# Altium integrated library CDE_Library.IntLib: 6171 symbols (part 20 of 25)
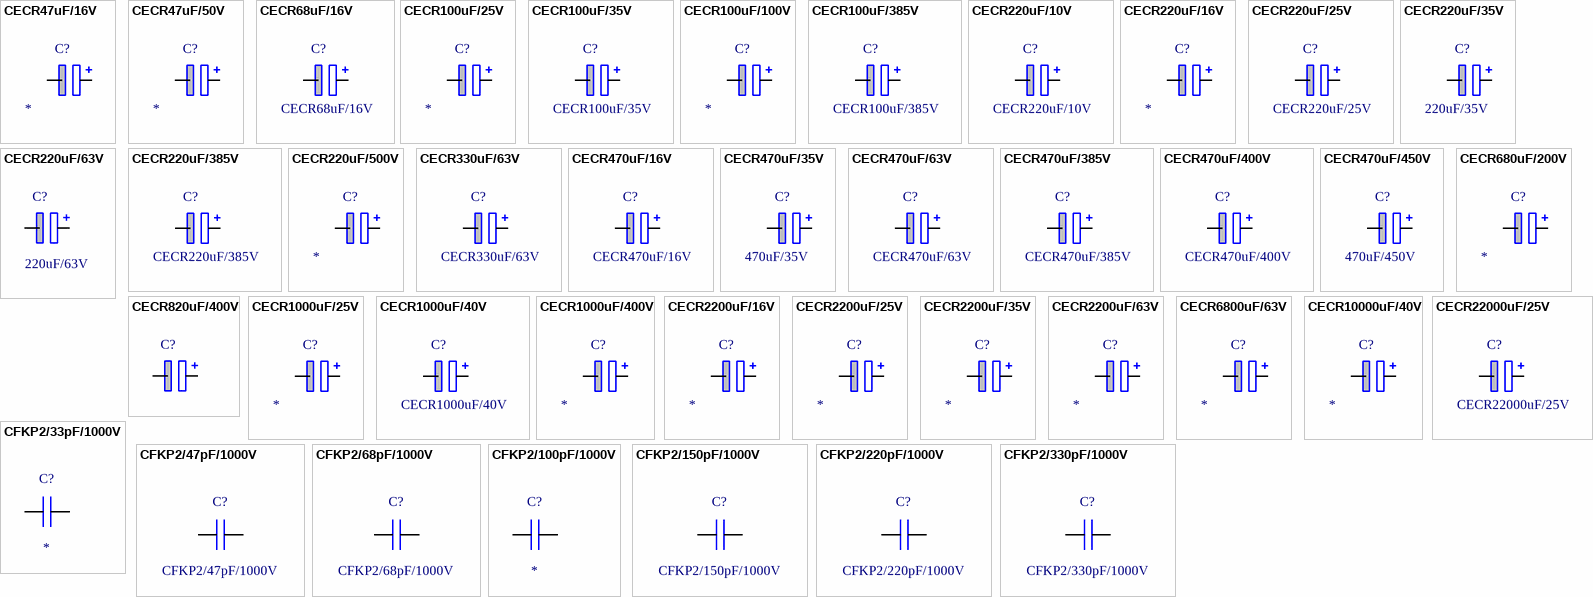
[diagram p276: symbols CECR47uF/16V to CFKP2/330pF/1000V]

## CECR470uF/450V
designator C?, comment 470uF/450V
elektrolytische condensator radiaal 470uF/450V; Part Number: CECR470uF/400V; Component Kind: Standard; Component Type: Standard; Designator: CECR470uF/400V; Footprint: cap 68 pol (D1.6/150/59); Library Reference: CECR470uF/400V; Pin Count: 2
footprint CAP 95 POL(D35/50)
pins: 1, 2

## CECR680uF/200V
designator C?
elektrolytische condensator radiaal 680uF/200V
footprint cap 84 pol (D1.2/175/75)
pins: 1, 2

## CECR820uF/400V
designator C?  (value not drawn)
elektrolytische condensator radiaal 820uF/400V
footprint cap 94 pol (D1.4/.9/150/70)
pins: 1, 2

## CECR1000uF/25V
designator C?
elektrolytische condensator radiaal 1000uF/25V
footprint cap 64 pol (D.4/.2/80/36)
pins: 1, 2

## CECR1000uF/40V
designator C?
elektrolytische condensator radiaal 1000uF/40V; Part Number: CECR1000uF/40V; Component Kind: Standard; Component Type: Standard; Designator: CECR1000uF/40V; Footprint: cap 66 pol (D.66/.3/125/43); Library Reference: CECR1000uF/40V; Pin Count: 2
footprint cap 66 pol (D.66/.3/125/43)
pins: 1, 2

## CECR1000uF/400V
designator C?
elco radiaal 1000uF/400V, Epcos B43514C9108M
footprint elco Epcos B43514 d40mm
pins: 1, 3

## CECR2200uF/16V
designator C?
elektrolytische condensator radiaal 2200uF/16V
footprint cap 63 pol (D.52/.2/90/36)
pins: 1, 2

## CECR2200uF/25V
designator C?
elektrolytische condensator radiaal 2200uF/25V
footprint cap 70 pol (D1/150/59)
pins: 1, 2

## CECR2200uF/35V
designator C?
elektrolytische condensator radiaal 2200uF/35V
footprint cap 66 pol (D.66/.3/125/43)
pins: 1, 2

## CECR2200uF/63V
designator C?
elektrolytische condensator radiaal 2200uF/35V
footprint cap 92 pol (D.87/.4/175/75)
pins: 1, 2

## CECR6800uF/63V
designator C?
elektrolytische condensator radiaal 6800uF/63V
footprint cap 68 pol (D1.6/150/59)
pins: 1, 2

## CECR10000uF/40V
designator C?
elektrolytische condensator radiaal 10000uF/40V
footprint cap 67 pol (D1.4/150/59)
pins: 1, 2

## CECR22000uF/25V
designator C?
elektrolytische condensator radiaal 22000uF/25V; Part Number: CECR22000uF/25V; Component Kind: Standard; Component Type: Standard; Designator: CECR22000uF/25V; Footprint: cap 67 pol (D1.4/150/59); Library Reference: CECR22000uF/25V; Pin Count: 2
footprint cap 67 pol (D1.4/150/59)
pins: 1, 2

## CFKP2/33pF/1000V
designator C?
polypropyleen capaciteit, Wima FKP2, 33pF/1000V
footprint cap 27 (.28/.1/.2/80/32)
pins: 1, 2

## CFKP2/47pF/1000V
designator C?
polypropyleen capaciteit, Wima FKP2, 47pF/1000V; Part Number: CFKP2/47pF/1000V; Component Kind: Standard; Component Type: Standard; Designator: CFKP2/47pF/1000V; Footprint: cap 27 (.28/.1/.2/80/32); Library Reference: CFKP2/47pF/1000V; Pin Count: 2
footprint cap 27 (.28/.1/.2/80/32)
pins: 1, 2

## CFKP2/68pF/1000V
designator C?
polypropyleen capaciteit, Wima FKP2, 68pF/1000V; Part Number: CFKP2/68pF/1000V; Component Kind: Standard; Component Type: Standard; Designator: CFKP2/68pF/1000V; Footprint: cap 27 (.28/.1/.2/80/32); Library Reference: CFKP2/68pF/1000V; Pin Count: 2
footprint cap 27 (.28/.1/.2/80/32)
pins: 1, 2

## CFKP2/100pF/1000V
designator C?
polypropyleen capaciteit, Wima FKP2, 100pF/1000V
footprint cap 87 (.28/.18/.2/80/32)
pins: 1, 2

## CFKP2/150pF/1000V
designator C?
polypropyleen capaciteit, Wima FKP2, 150pF/1000V; Part Number: CFKP2/150pF/1000V; Component Kind: Standard; Component Type: Standard; Designator: CFKP2/150pF/1000V; Footprint: cap 87 (.28/.18/.2/80/32); Library Reference: CFKP2/150pF/1000V; Pin Count: 2
footprint cap 87 (.28/.18/.2/80/32)
pins: 1, 2

## CFKP2/220pF/1000V
designator C?
polypropyleen capaciteit, Wima FKP2, 220pF/1000V; Part Number: CFKP2/220pF/1000V; Component Kind: Standard; Component Type: Standard; Designator: CFKP2/220pF/1000V; Footprint: cap 87 (.28/.18/.2/80/32); Library Reference: CFKP2/220pF/1000V; Pin Count: 2
footprint cap 87 (.28/.18/.2/80/32)
pins: 1, 2

## CFKP2/330pF/1000V
designator C?
polypropyleen capaciteit, Wima FKP2, 330pF/1000V; Part Number: CFKP2/330pF/1000V; Component Kind: Standard; Component Type: Standard; Designator: CFKP2/330pF/1000V; Footprint: cap 87 (.28/.18/.2/80/32); Library Reference: CFKP2/330pF/1000V; Pin Count: 2
footprint cap 87 (.28/.18/.2/80/32)
pins: 1, 2

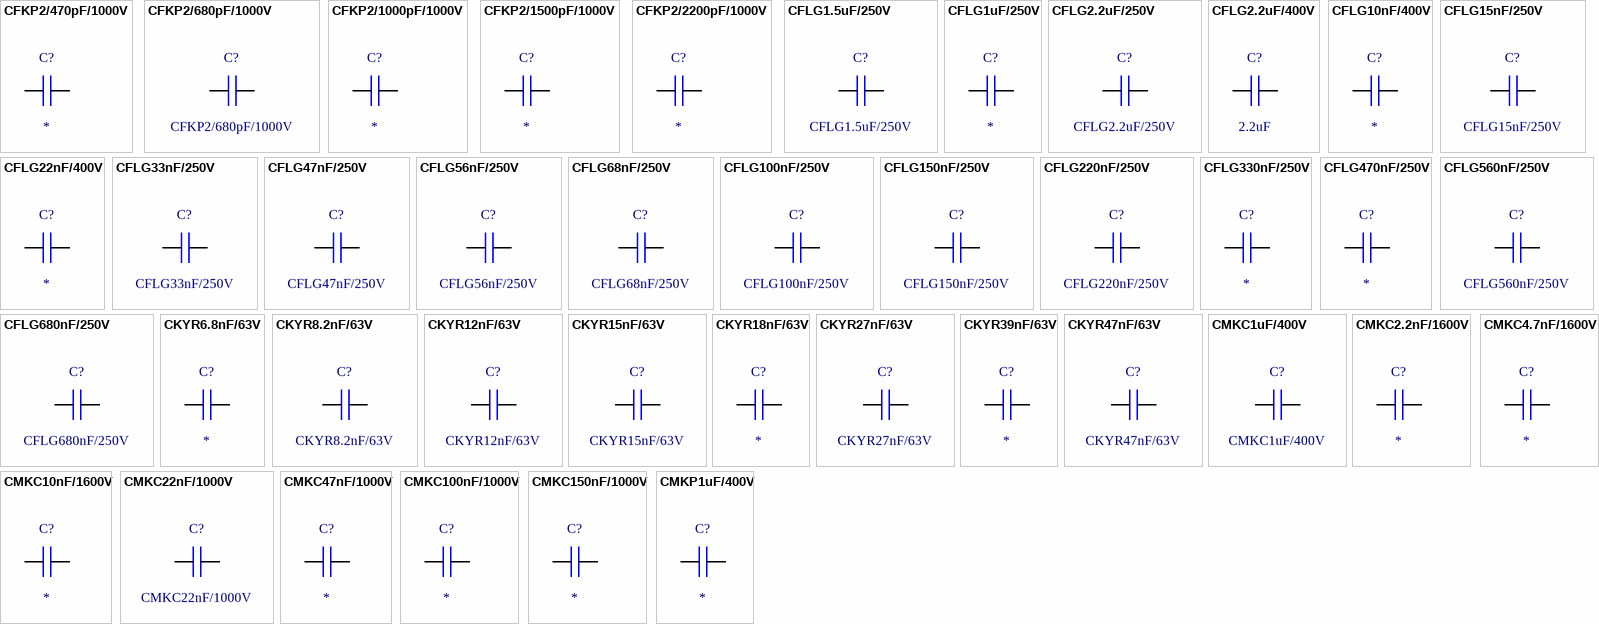
[diagram p223: symbols CFKP2/470pF/1000V to CMKP1uF/400V]

## CFKP2/470pF/1000V
designator C?
polypropyleen capaciteit, Wima FKP2, 470pF/1000V
footprint cap 88 (.28/.22/.2/80/32)
pins: 1, 2

## CFKP2/680pF/1000V
designator C?
polypropyleen capaciteit, Wima FKP2, 680pF/1000V; Part Number: CFKP2/680pF/1000V; Component Kind: Standard; Component Type: Standard; Designator: CFKP2/680pF/1000V; Footprint: cap 88 (.28/.22/.2/80/32); Library Reference: CFKP2/680pF/1000V; Pin Count: 2
footprint cap 88 (.28/.22/.2/80/32)
pins: 1, 2

## CFKP2/1000pF/1000V
designator C?
polypropyleen capaciteit, Wima FKP2, 1000pF/1000V
footprint cap 89 (.28/.25/.2/80/32)
pins: 1, 2

## CFKP2/1500pF/1000V
designator C?
polypropyleen capaciteit, Wima FKP2, 1500pF/1000V
footprint cap 90 (.28/.28/.2/80/32)
pins: 1, 2

## CFKP2/2200pF/1000V
designator C?
polypropyleen capaciteit, Wima FKP2, 2200pF/1000V
footprint cap 91 (.28/.33/.2/80/32)
pins: 1, 2

## CFLG1.5uF/250V
designator C?
gemetaliseerde polyester capaciteit 1.5uF/250V; Part Number: CFLG1.5uF/250V; Component Kind: Standard; Component Type: Standard; Designator: CFLG1.5uF/250V; Footprint: cap 43 (1.1/.38/1.1/125/43); Library Reference: CFLG1.5uF/250V; Pin Count: 2
footprint cap 43 (1.1/.38/1.1/125/43)
pins: 1, 2

## CFLG1uF/250V
designator C?
gemetaliseerde polyester capaciteit 1uF/250V
footprint cap 43 (1.1/.38/1.1/125/43)
pins: 1, 2

## CFLG2.2uF/250V
designator C?
gemetaliseerde polyester capaciteit 2.2uF/250V; Part Number: CFLG2.2uF/250V; Component Kind: Standard; Component Type: Standard; Designator: CFLG2.2uF/250V; Footprint: cap 43 (1.1/.38/1.1/125/43); Library Reference: CFLG2.2uF/250V; Pin Count: 2
footprint cap 43 (1.1/.38/1.1/125/43)
pins: 1, 2

## CFLG2.2uF/400V
designator C?, comment 2.2uF
gemetaliseerde polyester capaciteit 2.2uF/400V
footprint cap 43 (1.1/.38/1.1/125/43)
pins: 1, 2

## CFLG10nF/400V
designator C?
gemetaliseerde polyester capaciteit 10nF/400V
footprint cap 39 (.46/.14/.4/80/36)
pins: 1, 2

## CFLG15nF/250V
designator C?
gemetaliseerde polyester capaciteit 15nF/250V; Part Number: CFLG15nF/250V; Component Kind: Standard; Component Type: Standard; Designator: CFLG15nF/250V; Footprint: cap 39 (.46/.14/.4/80/36); Library Reference: CFLG15nF/250V; Pin Count: 2
footprint cap 39 (.46/.14/.4/80/36)
pins: 1, 2

## CFLG22nF/400V
designator C?
gemetaliseerde polyester capaciteit 22nF/400V
footprint cap 40 (.46/.2/.4/80/36)
pins: 1, 2

## CFLG33nF/250V
designator C?
gemetaliseerde polyester capaciteit 33nF/250V; Part Number: CFLG33nF/250V; Component Kind: Standard; Component Type: Standard; Designator: CFLG33nF/250V; Footprint: cap 39 (.46/.14/.4/80/36); Library Reference: CFLG33nF/250V; Pin Count: 2
footprint cap 39 (.46/.14/.4/80/36)
pins: 1, 2

## CFLG47nF/250V
designator C?
gemetaliseerde polyester capaciteit 47nF/250V; Part Number: CFLG47nF/250V; Component Kind: Standard; Component Type: Standard; Designator: CFLG47nF/250V; Footprint: cap 39 (.46/.14/.4/80/36); Library Reference: CFLG47nF/250V; Pin Count: 2
footprint cap 39 (.46/.14/.4/80/36)
pins: 1, 2

## CFLG56nF/250V
designator C?
gemetaliseerde polyester capaciteit 56nF/250V; Part Number: CFLG56nF/250V; Component Kind: Standard; Component Type: Standard; Designator: CFLG56nF/250V; Footprint: cap 40 (.46/.2/.4/80/36); Library Reference: CFLG56nF/250V; Pin Count: 2
footprint cap 40 (.46/.2/.4/80/36)
pins: 1, 2

## CFLG68nF/250V
designator C?
gemetaliseerde polyester capaciteit 68nF/250V; Part Number: CFLG68nF/250V; Component Kind: Standard; Component Type: Standard; Designator: CFLG68nF/250V; Footprint: cap 39 (.46/.14/.4/80/36); Library Reference: CFLG68nF/250V; Pin Count: 2
footprint cap 39 (.46/.14/.4/80/36)
pins: 1, 2

## CFLG100nF/250V
designator C?
gemetaliseerde polyester capaciteit 100nF/250V; Part Number: CFLG100nF/250V; Component Kind: Standard; Component Type: Standard; Designator: CFLG100nF/250V; Footprint: cap 31 (.4/.2/.3/80/36); Library Reference: CFLG100nF/250V; Pin Count: 2
footprint cap 31 (.4/.2/.3/80/36)
pins: 1, 2

## CFLG150nF/250V
designator C?
gemetaliseerde polyester capaciteit 150nF/250V; Part Number: CFLG150nF/250V; Component Kind: Standard; Component Type: Standard; Designator: CFLG150nF/250V; Footprint: cap 18 (.7/.2/.6/125/43); Library Reference: CFLG150nF/250V; Pin Count: 2
footprint cap 18 (.7/.2/.6/125/43)
pins: 1, 2

## CFLG220nF/250V
designator C?
gemetaliseerde polyester capaciteit 220nF/250V; Part Number: CFLG220nF/250V; Component Kind: Standard; Component Type: Standard; Designator: CFLG220nF/250V; Footprint: cap 19 (.7/.28/.6/125/43); Library Reference: CFLG220nF/250V; Pin Count: 2
footprint cap 19 (.7/.28/.6/125/43)
pins: 1, 2

## CFLG330nF/250V
designator C?
gemetaliseerde polyester capaciteit 330nF/250V
footprint cap 41 (.82/.24/.8/125/43)
pins: 1, 2

## CFLG470nF/250V
designator C?
gemetaliseerde polyester capaciteit 470nF/250V
footprint cap 42 (.94/.22/.9/125/43)
pins: 1, 2

## CFLG560nF/250V
designator C?
gemetaliseerde polyester capaciteit 560nF/250V; Part Number: CFLG560nF/250V; Component Kind: Standard; Component Type: Standard; Designator: CFLG560nF/250V; Footprint: cap 41 (.82/.24/.8/125/43); Library Reference: CFLG560nF/250V; Pin Count: 2
footprint cap 41 (.82/.24/.8/125/43)
pins: 1, 2

## CFLG680nF/250V
designator C?
gemetaliseerde polyester capaciteit 680nF/250V; Part Number: CFLG680nF/250V; Component Kind: Standard; Component Type: Standard; Designator: CFLG680nF/250V; Footprint: cap 42 (.94/.22/.9/125/43); Library Reference: CFLG680nF/250V; Pin Count: 2
footprint cap 42 (.94/.22/.9/125/43)
pins: 1, 2

## CKYR6.8nF/63V
designator C?
film capaciteit type KYR 6.8nF/63V
footprint cap 44 (.28/.28/dgnl.2/80/36)
pins: 1, 2

## CKYR8.2nF/63V
designator C?
film capaciteit type KYR 8.2nF/63V; Part Number: CKYR8.2nF/63V; Component Kind: Standard; Component Type: Standard; Designator: CKYR8.2nF/63V; Footprint: cap 44 (.28/.28/dgnl.2/80/36); Library Reference: CKYR8.2nF/63V; Pin Count: 2
footprint cap 44 (.28/.28/dgnl.2/80/36)
pins: 1, 2

## CKYR12nF/63V
designator C?
film capaciteit type KYR 12nF/63V; Part Number: CKYR12nF/63V; Component Kind: Standard; Component Type: Standard; Designator: CKYR12nF/63V; Footprint: cap 44 (.28/.28/dgnl.2/80/36); Library Reference: CKYR12nF/63V; Pin Count: 2
footprint cap 44 (.28/.28/dgnl.2/80/36)
pins: 1, 2

## CKYR15nF/63V
designator C?
film capaciteit type KYR 15nF/63V; Part Number: CKYR15nF/63V; Component Kind: Standard; Component Type: Standard; Designator: CKYR15nF/63V; Footprint: cap 44 (.28/.28/dgnl.2/80/36); Library Reference: CKYR15nF/63V; Pin Count: 2
footprint cap 44 (.28/.28/dgnl.2/80/36)
pins: 1, 2

## CKYR18nF/63V
designator C?
film capaciteit type KYR 18nF/63V
footprint cap 45 (.38/.38/dgnl.3/80/36)
pins: 1, 2

## CKYR27nF/63V
designator C?
film capaciteit type KYR 27nF/63V; Part Number: CKYR27nF/63V; Component Kind: Standard; Component Type: Standard; Designator: CKYR27nF/63V; Footprint: cap 45 (.38/.38/dgnl.3/80/36); Library Reference: CKYR27nF/63V; Pin Count: 2
footprint cap 45 (.38/.38/dgnl.3/80/36)
pins: 1, 2

## CKYR39nF/63V
designator C?
film capaciteit type KYR 39nF/63V
footprint cap 46 (.48/.48/dgnl.4/80/36)
pins: 1, 2

## CKYR47nF/63V
designator C?
film capaciteit type KYR 47nF/63V; Part Number: CKYR47nF/63V; Component Kind: Standard; Component Type: Standard; Designator: CKYR47nF/63V; Footprint: cap 46 (.48/.48/dgnl.4/80/36); Library Reference: CKYR47nF/63V; Pin Count: 2
footprint cap 46 (.48/.48/dgnl.4/80/36)
pins: 1, 2

## CMKC1uF/400V
designator C?
polyester capaciteit 1uF/400V; Part Number: CMKC1uF/400V; Component Kind: Standard; Component Type: Standard; Designator: CMKC1uF/400V; Footprint: cap 13 (1.2/.88/1.4/150/55); Library Reference: CMKC1uF/400V; Pin Count: 2
footprint cap 13 (1.2/.88/1.4/150/55)
pins: 1, 2

## CMKC2.2nF/1600V
designator C?
polyester capaciteit 2,2nF/1600V
footprint cap 8 (.7/.4/.9/150/47)
pins: 1, 2

## CMKC4.7nF/1600V
designator C?
polyester capaciteit 4,7nF/1600V
footprint cap 9 (.72/.46/.9/150/47)
pins: 1, 2

## CMKC10nF/1600V
designator C?
polyester capaciteit 10nF/1600V
footprint cap 10 (.94/.46/1.1/150/47)
pins: 1, 2

## CMKC22nF/1000V
designator C?
polyester capaciteit 22nF/1000V; Part Number: CMKC22nF/1000V; Component Kind: Standard; Component Type: Standard; Designator: CMKC22nF/1000V; Footprint: cap 10 (.94/.46/1.1/150/47); Library Reference: CMKC22nF/1000V; Pin Count: 2
footprint cap 10 (.94/.46/1.1/150/47)
pins: 1, 2

## CMKC47nF/1000V
designator C?
polyester capaciteit 47nF/1000V
footprint cap 11 (.94/.58/1.1/150/47)
pins: 1, 2

## CMKC100nF/1000V
designator C?
polyester capaciteit 100nF/1000V
footprint cap 12 (1.2/.76/1.4/150/55)
pins: 1, 2

## CMKC150nF/1000V
designator C?
polyester capaciteit 150nF/1000V
footprint cap 13 (1.2/.88/1.4/150/55)
pins: 1, 2

## CMKP1uF/400V
designator C?
gemetaliseerde polypropyleen capaciteit 1uF/400V
footprint cap 37 (1.6/.6/1.5/125/43)
pins: 1, 2

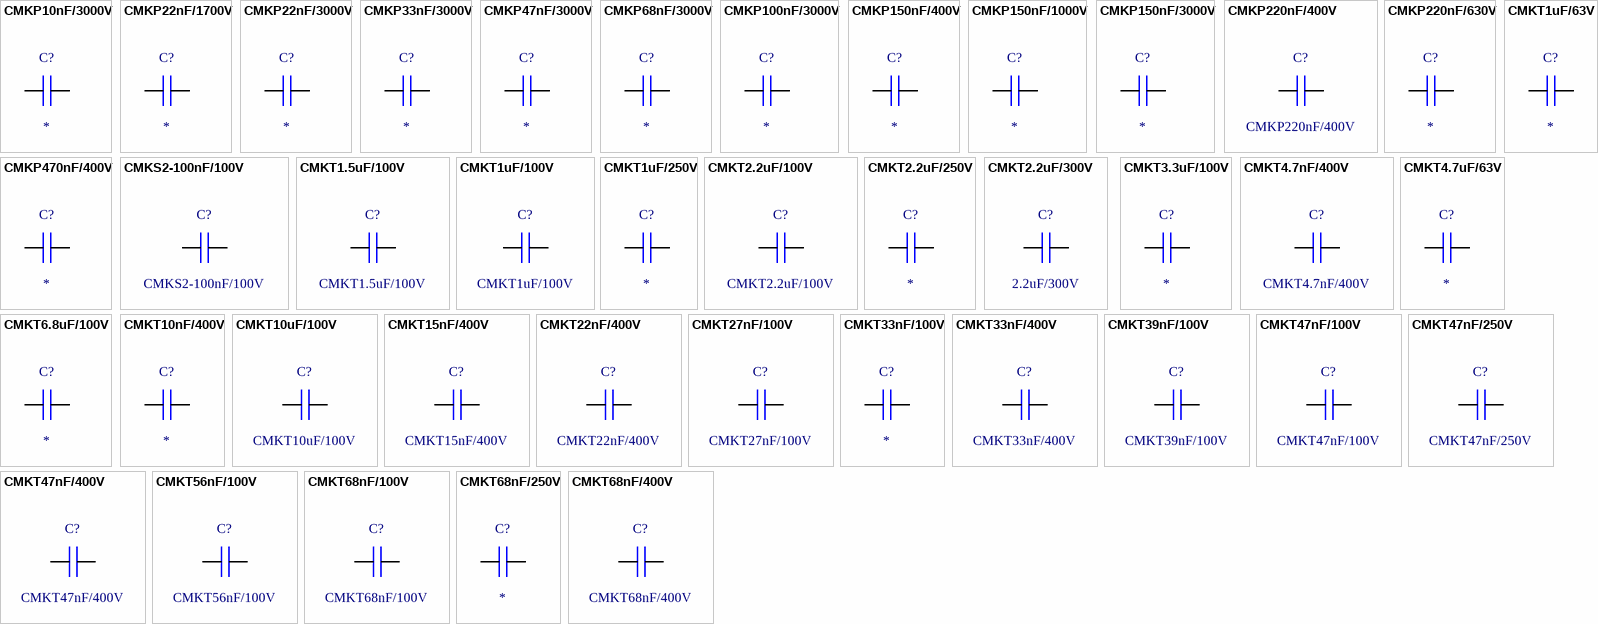
[diagram p224: symbols CMKP10nF/3000V to CMKT68nF/400V]

## CMKP10nF/3000V
designator C?
gemetaliseerde polypropyleen capaciteit 10nF/3000V
footprint cap 75 (1.3/.48/1.5/125/43)
pins: 1, 2

## CMKP22nF/1700V
designator C?
gemetaliseerde polypropyleen capaciteit 22nF/1700V
footprint cap 71 (1.1/.46/1.1/125/43)
pins: 1, 2

## CMKP22nF/3000V
designator C?
gemetaliseerde polypropyleen capaciteit 22nF/3000V
footprint cap 76 (1.3/.68/1.5/125/51)
pins: 1, 2

## CMKP33nF/3000V
designator C?
gemetaliseerde polypropyleen capaciteit 33nF/3000V
footprint cap 77 (1.3/.82/1.5/125/51)
pins: 1, 2

## CMKP47nF/3000V
designator C?
gemetaliseerde polypropyleen capaciteit 47nF/3000V
footprint cap 78 (1.74/.75/1.9/125/51)
pins: 1, 2

## CMKP68nF/3000V
designator C?
gemetaliseerde polypropyleen capaciteit 68nF/3000V
footprint cap 79 (1.74/.9/1.9/125/51)
pins: 1, 2

## CMKP100nF/3000V
designator C?
gemetaliseerde polypropyleen capaciteit 100nF/3000V
footprint cap 80 (1.74/1.06/1.9/125/59)
pins: 1, 2

## CMKP150nF/400V
designator C?
gemetaliseerde polypropyleen capaciteit 150nF/400V
footprint cap 35 (1.04/.4/.9/125/43)
pins: 1, 2

## CMKP150nF/1000V
designator C?
gemetaliseerde polypropyleen capaciteit 150nF/1000V
footprint cap 34 (1.34/.58/1.1/125/43)
pins: 1, 2

## CMKP150nF/3000V
designator C?
gemetaliseerde polypropyleen capaciteit 150nF/3000V
footprint cap 81 (1.74/1.26/1.9/125/59)
pins: 1, 2

## CMKP220nF/400V
designator C?
gemetaliseerde polypropyleen capaciteit 220nF/400V; Part Number: CMKP220nF/400V; Component Kind: Standard; Component Type: Standard; Designator: CMKP220nF/400V; Footprint: cap 34 (1.34/.58/1.1/125/43); Library Reference: CMKP220nF/400V; Pin Count: 2
footprint cap 34 (1.34/.58/1.1/125/43)
pins: 1, 2

## CMKP220nF/630V
designator C?
gemetaliseerde polypropyleen capaciteit 220nF/630V
footprint cap 38 (1.3/.6/1.1/125/43)
pins: 1, 2

## CMKP470nF/400V
designator C?
gemetaliseerde polypropyleen capaciteit 470nF/400V
footprint cap 36 (1.24/.56/1.1/125/43)
pins: 1, 2

## CMKS2-100nF/100V
designator C?
gemetaliseerde polyester capaciteit 100nF/100V, Wima MKS2; Part Number: CMKS2-100nF/100V; Component Kind: Standard; Component Type: Standard; Designator: CMKS2-100nF/100V; Footprint: cap 26 (.28/.14/.2/80/32); Library Reference: CMKS2-100nF/100V; Pin Count: 2
footprint cap 26 (.28/.14/.2/80/32)
pins: 1, 2

## CMKT1.5uF/100V
designator C?
gemetaliseerde polyester capaciteit 1.5uF/100V; Part Number: CMKT1.5uF/100V; Component Kind: Standard; Component Type: Standard; Designator: CMKT1.5uF/100V; Footprint: cap 21 (1/.26/.9/125/43); Library Reference: CMKT1.5uF/100V; Pin Count: 2
footprint cap 21 (1/.26/.9/125/43)
pins: 1, 2

## CMKT1uF/63V
designator C?
gemetaliseerde polyester capaciteit 1uF/63V
footprint cap 28 (.3/.24/.2/80/32)
pins: 1, 2

## CMKT1uF/100V
designator C?
gemetaliseerde polyester capaciteit 1uF/100V; Part Number: CMKT1uF/100V; Component Kind: Standard; Component Type: Standard; Designator: CMKT1uF/100V; Footprint: cap 20 (.7/.34/.6/125/43); Library Reference: CMKT1uF/100V; Pin Count: 2
footprint cap 20 (.7/.34/.6/125/43)
pins: 1, 2

## CMKT1uF/250V
designator C?
gemetaliseerde polyester capaciteit 1uF/250V
footprint cap 22 (1/.34/.9/125/43)
pins: 1, 2

## CMKT2.2uF/100V
designator C?
gemetaliseerde polyester capaciteit 2.2uF/100V; Part Number: CMKT2.2uF/100V; Component Kind: Standard; Component Type: Standard; Designator: CMKT2.2uF/100V; Footprint: cap 22 (1/.34/.9/125/43); Library Reference: CMKT2.2uF/100V; Pin Count: 2
footprint cap 22 (1/.34/.9/125/43)
pins: 1, 2

## CMKT2.2uF/250V
designator C?
gemetaliseerde polyester capaciteit 2.2uF/250V
footprint cap 24 (1.2/.42/1.1/125/43)
pins: 1, 2

## CMKT2.2uF/300V
designator C?, comment 2.2uF/300V
gemetaliseerde polyester capaciteit 2.2uF/300V
footprint cap 98
pins: 1, 2

## CMKT3.3uF/100V
designator C?
gemetaliseerde polyester capaciteit 3.3uF/100V
footprint cap 23 (1/.38/.9/125/43)
pins: 1, 2

## CMKT4.7nF/400V
designator C?
gemetaliseerde polyester capaciteit 4.7nF/400V; Part Number: CMKT4.7nF/400V; Component Kind: Standard; Component Type: Standard; Designator: CMKT4.7nF/400V; Footprint: cap 29 (.4/.12/.3/80/36); Library Reference: CMKT4.7nF/400V; Pin Count: 2
footprint cap 29 (.4/.12/.3/80/36)
pins: 1, 2

## CMKT4.7uF/63V
designator C?
gemetaliseerde polyester capaciteit 4.7uF/63V
footprint cap 72 (.35/.38/.3/80/32)
pins: 1, 2

## CMKT6.8uF/100V
designator C?
gemetaliseerde polyester capaciteit 6.8uF/100V
footprint cap 25 (1.2/.5/1.1/125/43)
pins: 1, 2

## CMKT10nF/400V
designator C?
gemetaliseerde polyester capaciteit 10nF/400V
footprint cap 29 (.4/.12/.3/80/36)
pins: 1, 2

## CMKT10uF/100V
designator C?
gemetaliseerde polyester capaciteit 10uF/100V; Part Number: CMKT10uF/100V; Component Kind: Standard; Component Type: Standard; Designator: CMKT10uF/100V; Footprint: cap 24 (1.2/.42/1.1/125/43); Library Reference: CMKT10uF/100V; Pin Count: 2
footprint cap 24 (1.2/.42/1.1/125/43)
pins: 1, 2

## CMKT15nF/400V
designator C?
gemetaliseerde polyester capaciteit 15nF/400V; Part Number: CMKT15nF/400V; Component Kind: Standard; Component Type: Standard; Designator: CMKT15nF/400V; Footprint: cap 17 (.5/.2/.4/125/43); Library Reference: CMKT15nF/400V; Pin Count: 2
footprint cap 17 (.5/.2/.4/125/43)
pins: 1, 2

## CMKT22nF/400V
designator C?
gemetaliseerde polyester capaciteit 22nF/400V; Part Number: CMKT22nF/400V; Component Kind: Standard; Component Type: Standard; Designator: CMKT22nF/400V; Footprint: cap 17 (.5/.2/.4/125/43); Library Reference: CMKT22nF/400V; Pin Count: 2
footprint cap 17 (.5/.2/.4/125/43)
pins: 1, 2

## CMKT27nF/100V
designator C?
gemetaliseerde polyester capaciteit 27nF/100V; Part Number: CMKT27nF/100V; Component Kind: Standard; Component Type: Standard; Designator: CMKT27nF/100V; Footprint: cap 29 (.4/.12/.3/80/36); Library Reference: CMKT27nF/100V; Pin Count: 2
footprint cap 29 (.4/.12/.3/80/36)
pins: 1, 2

## CMKT33nF/100V
designator C?
gemetaliseerde polyester capaciteit 33nF/100V
footprint cap 27 (.28/.1/.2/80/32)
pins: 1, 2

## CMKT33nF/400V
designator C?
gemetaliseerde polyester capaciteit 33nF/400V; Part Number: CMKT33nF/400V; Component Kind: Standard; Component Type: Standard; Designator: CMKT33nF/400V; Footprint: cap 17 (.5/.2/.4/125/43); Library Reference: CMKT33nF/400V; Pin Count: 2
footprint cap 17 (.5/.2/.4/125/43)
pins: 1, 2

## CMKT39nF/100V
designator C?
gemetaliseerde polyester capaciteit 39nF/100V; Part Number: CMKT39nF/100V; Component Kind: Standard; Component Type: Standard; Designator: CMKT39nF/100V; Footprint: cap 29 (.4/.12/.3/80/36); Library Reference: CMKT39nF/100V; Pin Count: 2
footprint cap 29 (.4/.12/.3/80/36)
pins: 1, 2

## CMKT47nF/100V
designator C?
gemetaliseerde polyester capaciteit 47nF/100V; Part Number: CMKT47nF/100V; Component Kind: Standard; Component Type: Standard; Designator: CMKT47nF/100V; Footprint: cap 29 (.4/.12/.3/80/36); Library Reference: CMKT47nF/100V; Pin Count: 2
footprint cap 29 (.4/.12/.3/80/36)
pins: 1, 2

## CMKT47nF/250V
designator C?
gemetaliseerde polyester capaciteit 47nF/250V; Part Number: CMKT47nF/250V; Component Kind: Standard; Component Type: Standard; Designator: CMKT47nF/250V; Footprint: cap 17 (.5/.2/.4/125/43); Library Reference: CMKT47nF/250V; Pin Count: 2
footprint cap 17 (.5/.2/.4/125/43)
pins: 1, 2

## CMKT47nF/400V
designator C?
gemetaliseerde polyester capaciteit 47nF/400V; Part Number: CMKT47nF/400V; Component Kind: Standard; Component Type: Standard; Designator: CMKT47nF/400V; Footprint: cap 18 (.7/.2/.6/125/43); Library Reference: CMKT47nF/400V; Pin Count: 2
footprint cap 18 (.7/.2/.6/125/43)
pins: 1, 2

## CMKT56nF/100V
designator C?
gemetaliseerde polyester capaciteit 56nF/100V; Part Number: CMKT56nF/100V; Component Kind: Standard; Component Type: Standard; Designator: CMKT56nF/100V; Footprint: cap 29 (.4/.12/.3/80/36); Library Reference: CMKT56nF/100V; Pin Count: 2
footprint cap 29 (.4/.12/.3/80/36)
pins: 1, 2

## CMKT68nF/100V
designator C?
gemetaliseerde polyester capaciteit 68nF/100V; Part Number: CMKT68nF/100V; Component Kind: Standard; Component Type: Standard; Designator: CMKT68nF/100V; Footprint: cap 29 (.4/.12/.3/80/36); Library Reference: CMKT68nF/100V; Pin Count: 2
footprint cap 29 (.4/.12/.3/80/36)
pins: 1, 2

## CMKT68nF/250V
designator C?
gemetaliseerde polyester capaciteit 68nF/250V
footprint cap 32 (.4/.1/.4/80/36)
pins: 1, 2

## CMKT68nF/400V
designator C?
gemetaliseerde polyester capaciteit 68nF/400V; Part Number: CMKT68nF/400V; Component Kind: Standard; Component Type: Standard; Designator: CMKT68nF/400V; Footprint: cap 19 (.7/.28/.6/125/43); Library Reference: CMKT68nF/400V; Pin Count: 2
footprint cap 19 (.7/.28/.6/125/43)
pins: 1, 2

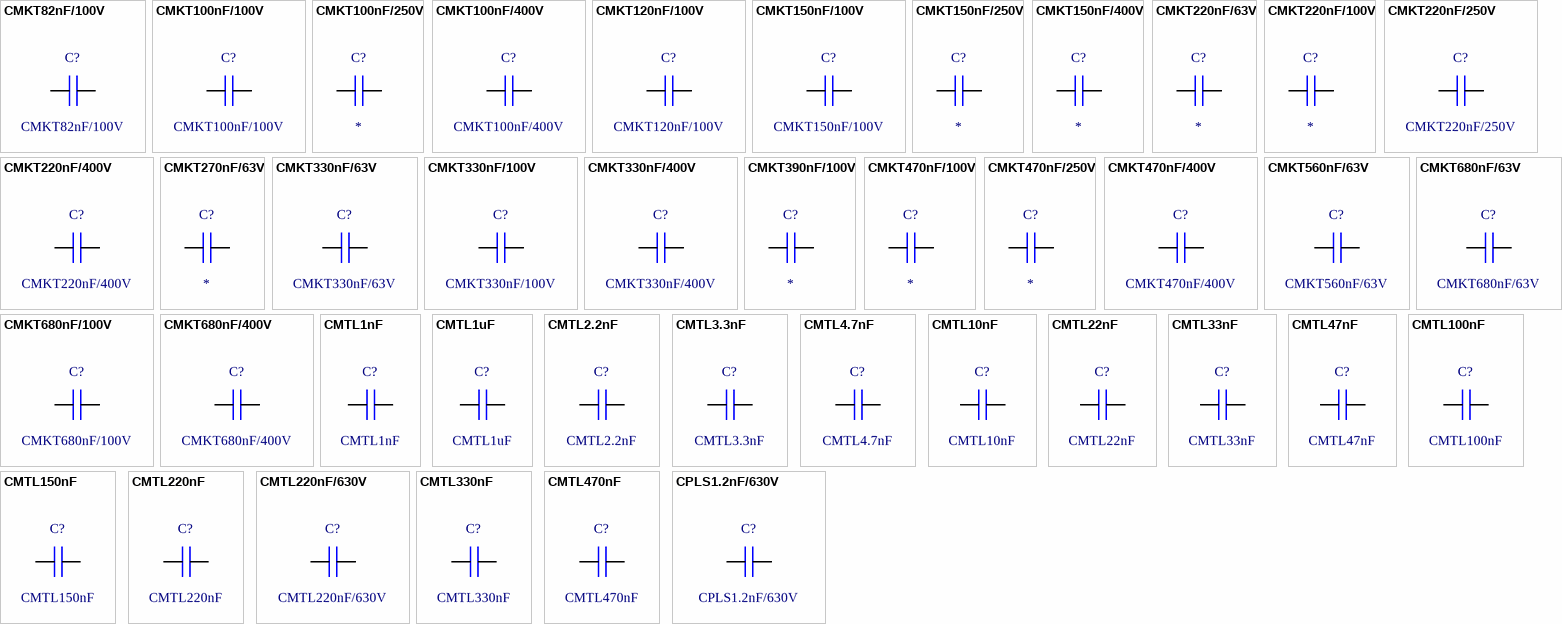
[diagram p225: symbols CMKT82nF/100V to CPLS1.2nF/630V]

## CMKT82nF/100V
designator C?
gemetaliseerde polyester capaciteit 82nF/100V; Part Number: CMKT82nF/100V; Component Kind: Standard; Component Type: Standard; Designator: CMKT82nF/100V; Footprint: cap 29 (.4/.12/.3/80/36); Library Reference: CMKT82nF/100V; Pin Count: 2
footprint cap 29 (.4/.12/.3/80/36)
pins: 1, 2

## CMKT100nF/100V
designator C?
gemetaliseerde polyester capaciteit 100nF/100V; Part Number: CMKT100nF/100V; Component Kind: Standard; Component Type: Standard; Designator: CMKT100nF/100V; Footprint: cap 17 (.5/.2/.4/125/43); Library Reference: CMKT100nF/100V; Pin Count: 2
footprint cap 17 (.5/.2/.4/125/43)
pins: 1, 2

## CMKT100nF/250V
designator C?
gemetaliseerde polyester capaciteit 100nF/250V
footprint cap 18 (.7/.2/.6/125/43)
pins: 1, 2

## CMKT100nF/400V
designator C?
gemetaliseerde polyester capaciteit 100nF/400V; Part Number: CMKT100nF/400V; Component Kind: Standard; Component Type: Standard; Designator: CMKT100nF/400V; Footprint: cap 19 (.7/.28/.6/125/43); Library Reference: CMKT100nF/400V; Pin Count: 2
footprint cap 19 (.7/.28/.6/125/43)
pins: 1, 2

## CMKT120nF/100V
designator C?
gemetaliseerde polyester capaciteit 120nF/100V; Part Number: CMKT120nF/100V; Component Kind: Standard; Component Type: Standard; Designator: CMKT120nF/100V; Footprint: cap 31 (.4/.2/.3/80/36); Library Reference: CMKT120nF/100V; Pin Count: 2
footprint cap 31 (.4/.2/.3/80/36)
pins: 1, 2

## CMKT150nF/100V
designator C?
gemetaliseerde polyester capaciteit 150nF/100V; Part Number: CMKT150nF/100V; Component Kind: Standard; Component Type: Standard; Designator: CMKT150nF/100V; Footprint: cap 30 (.4/.16/.3/80/36); Library Reference: CMKT150nF/100V; Pin Count: 2
footprint cap 30 (.4/.16/.3/80/36)
pins: 1, 2

## CMKT150nF/250V
designator C?
gemetaliseerde polyester capaciteit 150nF/250V
footprint cap 33 (.4/.16/.4/80/36)
pins: 1, 2

## CMKT150nF/400V
designator C?
gemetaliseerde polyester capaciteit 150nF/400V
footprint cap 20 (.7/.34/.6/125/43)
pins: 1, 2

## CMKT220nF/63V
designator C?
gemetaliseerde polyester capaciteit 220nF/63V
footprint cap 26 (.28/.14/.2/80/32)
pins: 1, 2

## CMKT220nF/100V
designator C?
gemetaliseerde polyester capaciteit 220nF/100V
footprint cap 17 (.5/.2/.4/125/43)
pins: 1, 2

## CMKT220nF/250V
designator C?
gemetaliseerde polyester capaciteit 220nF/250V; Part Number: CMKT220nF/250V; Component Kind: Standard; Component Type: Standard; Designator: CMKT220nF/250V; Footprint: cap 19 (.7/.28/.6/125/43); Library Reference: CMKT220nF/250V; Pin Count: 2
footprint cap 19 (.7/.28/.6/125/43)
pins: 1, 2

## CMKT220nF/400V
designator C?
gemetaliseerde polyester capaciteit 220nF/400V; Part Number: CMKT220nF/400V; Component Kind: Standard; Component Type: Standard; Designator: CMKT220nF/400V; Footprint: cap 21 (1/.26/.9/125/43); Library Reference: CMKT220nF/400V; Pin Count: 2
footprint cap 21 (1/.26/.9/125/43)
pins: 1, 2

## CMKT270nF/63V
designator C?
gemetaliseerde polyester capaciteit 270nF/63V
footprint cap 30 (.4/.16/.3/80/36)
pins: 1, 2

## CMKT330nF/63V
designator C?
gemetaliseerde polyester capaciteit 330nF/63V; Part Number: CMKT330nF/63V; Component Kind: Standard; Component Type: Standard; Designator: CMKT330nF/63V; Footprint: cap 26 (.28/.14/.2/80/32); Library Reference: CMKT330nF/63V; Pin Count: 2
footprint cap 26 (.28/.14/.2/80/32)
pins: 1, 2

## CMKT330nF/100V
designator C?
gemetaliseerde polyester capaciteit 330nF/100V; Part Number: CMKT330nF/100V; Component Kind: Standard; Component Type: Standard; Designator: CMKT330nF/100V; Footprint: cap 18 (.7/.2/.6/125/43); Library Reference: CMKT330nF/100V; Pin Count: 2
footprint cap 18 (.7/.2/.6/125/43)
pins: 1, 2

## CMKT330nF/400V
designator C?
gemetaliseerde polyester capaciteit 330nF/400V; Part Number: CMKT330nF/400V; Component Kind: Standard; Component Type: Standard; Designator: CMKT330nF/400V; Footprint: cap 22 (1/.34/.9/125/43); Library Reference: CMKT330nF/400V; Pin Count: 2
footprint cap 22 (1/.34/.9/125/43)
pins: 1, 2

## CMKT390nF/100V
designator C?
gemetaliseerde polyester capaciteit 390nF/100V
footprint cap 31 (.4/.2/.3/80/36)
pins: 1, 2

## CMKT470nF/100V
designator C?
gemetaliseerde polyester capaciteit 470nF/100V
footprint cap 19 (.7/.28/.6/125/43)
pins: 1, 2

## CMKT470nF/250V
designator C?
gemetaliseerde polyester capaciteit 470nF/250V
footprint cap 21 (1/.26/.9/125/43)
pins: 1, 2

## CMKT470nF/400V
designator C?
gemetaliseerde polyester capaciteit 470nF/400V; Part Number: CMKT470nF/400V; Component Kind: Standard; Component Type: Standard; Designator: CMKT470nF/400V; Footprint: cap 23 (1/.38/.9/125/43); Library Reference: CMKT470nF/400V; Pin Count: 2
footprint cap 23 (1/.38/.9/125/43)
pins: 1, 2

## CMKT560nF/63V
designator C?
gemetaliseerde polyester capaciteit 560nF/63V; Part Number: CMKT560nF/63V; Component Kind: Standard; Component Type: Standard; Designator: CMKT560nF/63V; Footprint: cap 31 (.4/.2/.3/80/36); Library Reference: CMKT560nF/63V; Pin Count: 2
footprint cap 31 (.4/.2/.3/80/36)
pins: 1, 2

## CMKT680nF/63V
designator C?
gemetaliseerde polyester capaciteit 680nF/63V; Part Number: CMKT680nF/63V; Component Kind: Standard; Component Type: Standard; Designator: CMKT680nF/63V; Footprint: cap 31 (.4/.2/.3/80/36); Library Reference: CMKT680nF/63V; Pin Count: 2
footprint cap 31 (.4/.2/.3/80/36)
pins: 1, 2

## CMKT680nF/100V
designator C?
gemetaliseerde polyester capaciteit 680nF/100V; Part Number: CMKT680nF/100V; Component Kind: Standard; Component Type: Standard; Designator: CMKT680nF/100V; Footprint: cap 19 (.7/.28/.6/125/43); Library Reference: CMKT680nF/100V; Pin Count: 2
footprint cap 19 (.7/.28/.6/125/43)
pins: 1, 2

## CMKT680nF/400V
designator C?
gemetaliseerde polyester capaciteit 680nF/400V; Part Number: CMKT680nF/400V; Component Kind: Standard; Component Type: Standard; Designator: CMKT680nF/400V; Footprint: cap 24 (1.2/.42/1.1/125/43); Library Reference: CMKT680nF/400V; Pin Count: 2
footprint cap 24 (1.2/.42/1.1/125/43)
pins: 1, 2

## CMTL1nF
designator C?
multilayer capaciteit 1nF/63V; Part Number: CMTL1nF; Component Kind: Standard; Component Type: Standard; Designator: CMTL1nF; Footprint: cap 1 (.25/.08/.2/80/36); Library Reference: CMTL1nF; Pin Count: 2
footprint cap 1 (.25/.08/.2/80/36)
pins: 1, 2

## CMTL1uF
designator C?
multilayer capaciteit 1uF/63V; Part Number: CMTL1uF; Component Kind: Standard; Component Type: Standard; Designator: CMTL1uF; Footprint: cap 1 (.25/.08/.2/80/36); Library Reference: CMTL1uF; Pin Count: 2
footprint cap 1 (.25/.08/.2/80/36)
pins: 1, 2

## CMTL2.2nF
designator C?
multilayer capaciteit 2,2nF/63V; Part Number: CMTL2.2nF; Component Kind: Standard; Component Type: Standard; Designator: CMTL2.2nF; Footprint: cap 1 (.25/.08/.2/80/36); Library Reference: CMTL2.2nF; Pin Count: 2
footprint cap 1 (.25/.08/.2/80/36)
pins: 1, 2

## CMTL3.3nF
designator C?
multilayer capaciteit 3,3nF/63V; Part Number: CMTL3.3nF; Component Kind: Standard; Component Type: Standard; Designator: CMTL3.3nF; Footprint: cap 1 (.25/.08/.2/80/36); Library Reference: CMTL3.3nF; Pin Count: 2
footprint cap 1 (.25/.08/.2/80/36)
pins: 1, 2

## CMTL4.7nF
designator C?
multilayer capaciteit 4,7nF/63V; Part Number: CMTL4.7nF; Component Kind: Standard; Component Type: Standard; Designator: CMTL4.7nF; Footprint: cap 1 (.25/.08/.2/80/36); Library Reference: CMTL4.7nF; Pin Count: 2
footprint cap 1 (.25/.08/.2/80/36)
pins: 1, 2

## CMTL10nF
designator C?
multilayer capaciteit 10nF/63V; Part Number: CMTL10nF; Component Kind: Standard; Component Type: Standard; Designator: CMTL10nF; Footprint: cap 1 (.25/.08/.2/80/36); Library Reference: CMTL10nF; Pin Count: 2
footprint cap 1 (.25/.08/.2/80/36)
pins: 1, 2

## CMTL22nF
designator C?
multilayer capaciteit 22nF/63V; Part Number: CMTL22nF; Component Kind: Standard; Component Type: Standard; Designator: CMTL22nF; Footprint: cap 1 (.25/.08/.2/80/36); Library Reference: CMTL22nF; Pin Count: 2
footprint cap 1 (.25/.08/.2/80/36)
pins: 1, 2

## CMTL33nF
designator C?
multilayer capaciteit 33nF/63V; Part Number: CMTL33nF; Component Kind: Standard; Component Type: Standard; Designator: CMTL33nF; Footprint: cap 1 (.25/.08/.2/80/36); Library Reference: CMTL33nF; Pin Count: 2
footprint cap 1 (.25/.08/.2/80/36)
pins: 1, 2

## CMTL47nF
designator C?
multilayer capaciteit 47nF/63V; Part Number: CMTL47nF; Component Kind: Standard; Component Type: Standard; Designator: CMTL47nF; Footprint: cap 1 (.25/.08/.2/80/36); Library Reference: CMTL47nF; Pin Count: 2
footprint cap 1 (.25/.08/.2/80/36)
pins: 1, 2

## CMTL100nF
designator C?
multilayer capaciteit 100nF/63V; Part Number: CMTL100nF; Component Kind: Standard; Component Type: Standard; Designator: CMTL100nF; Footprint: cap 1 (.25/.08/.2/80/36); Library Reference: CMTL100nF; Pin Count: 2
footprint cap 1 (.25/.08/.2/80/36)
pins: 1, 2

## CMTL150nF
designator C?
multilayer capaciteit 150nF/63V; Part Number: CMTL150nF; Component Kind: Standard; Component Type: Standard; Designator: CMTL150nF; Footprint: cap 1 (.25/.08/.2/80/36); Library Reference: CMTL150nF; Pin Count: 2
footprint cap 1 (.25/.08/.2/80/36)
pins: 1, 2

## CMTL220nF
designator C?
multilayer capaciteit 220nF/63V; Part Number: CMTL220nF; Component Kind: Standard; Component Type: Standard; Designator: CMTL220nF; Footprint: cap 1 (.25/.08/.2/80/36); Library Reference: CMTL220nF; Pin Count: 2
footprint cap 1 (.25/.08/.2/80/36)
pins: 1, 2

## CMTL220nF/630V
designator C?
multilayer capaciteit 220nF/630V; Part Number: CMTL220nF/630V; Component Kind: Standard; Component Type: Standard; Designator: CMTL220nF/630V; Footprint: cap 1 (.25/.08/.2/80/36); Library Reference: CMTL220nF/630V; Pin Count: 2
footprint cap 1 (.25/.08/.2/80/36)
pins: 1, 2

## CMTL330nF
designator C?
multilayer capaciteit 330nF/63V; Part Number: CMTL330nF; Component Kind: Standard; Component Type: Standard; Designator: CMTL330nF; Footprint: cap 1 (.25/.08/.2/80/36); Library Reference: CMTL330nF; Pin Count: 2
footprint cap 1 (.25/.08/.2/80/36)
pins: 1, 2

## CMTL470nF
designator C?
multilayer capaciteit 470nF/63V; Part Number: CMTL470nF; Component Kind: Standard; Component Type: Standard; Designator: CMTL470nF; Footprint: cap 1 (.25/.08/.2/80/36); Library Reference: CMTL470nF; Pin Count: 2
footprint cap 1 (.25/.08/.2/80/36)
pins: 1, 2

## CPLS1.2nF/630V
designator C?
polystyreen capaciteit 1,2nF/630V; Part Number: CPLS1.2nF/630V; Component Kind: Standard; Component Type: Standard; Designator: CPLS1.2nF/630V; Footprint: cap 4 (.4/.2/.5/80/36); Library Reference: CPLS1.2nF/630V; Pin Count: 2
footprint cap 4 (.4/.2/.5/80/36)
pins: 1, 2

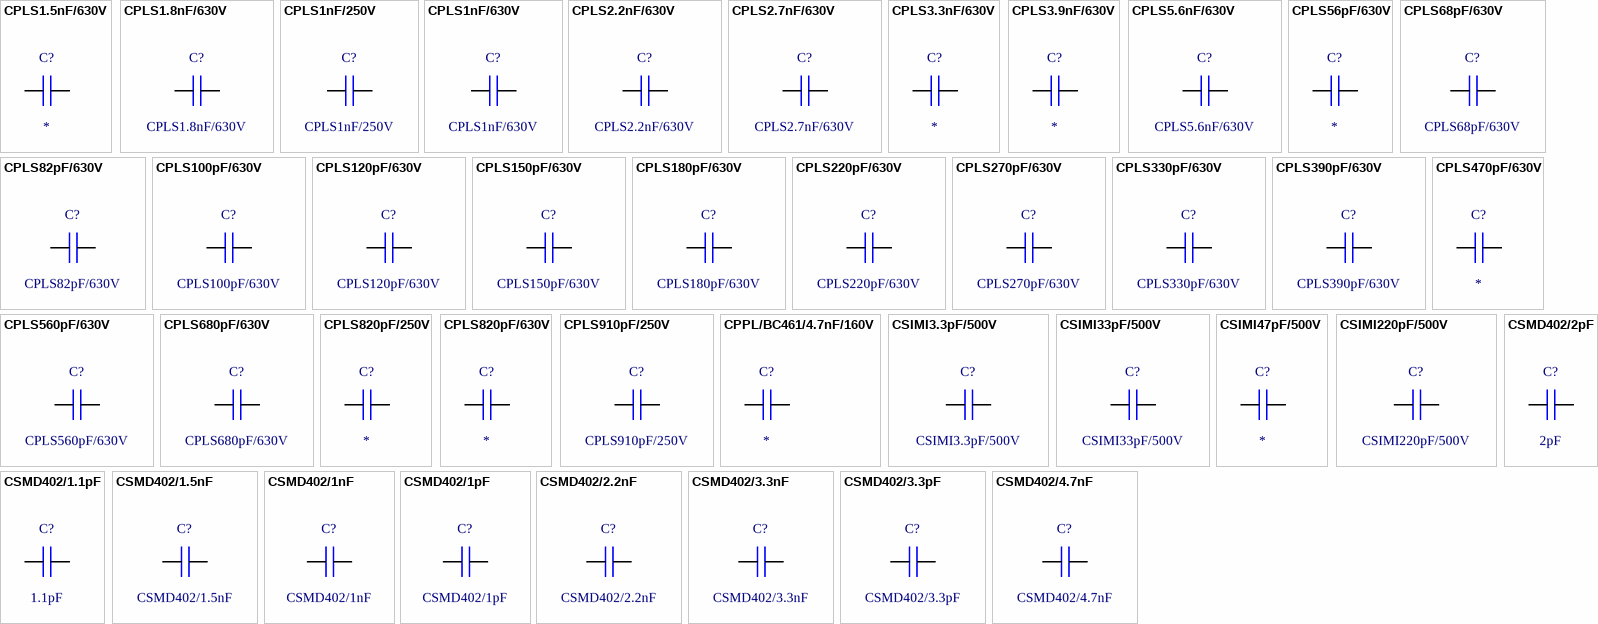
[diagram p226: symbols CPLS1.5nF/630V to CSMD402/4.7nF]

## CPLS1.5nF/630V
designator C?
polystyreen capaciteit 1,5nF/630V
footprint cap 5 (.56/.2/.7/100/36)
pins: 1, 2

## CPLS1.8nF/630V
designator C?
polystyreen capaciteit 1,8nF/630V; Part Number: CPLS1.8nF/630V; Component Kind: Standard; Component Type: Standard; Designator: CPLS1.8nF/630V; Footprint: cap 5 (.56/.2/.7/100/36); Library Reference: CPLS1.8nF/630V; Pin Count: 2
footprint cap 5 (.56/.2/.7/100/36)
pins: 1, 2

## CPLS1nF/250V
designator C?
polystyreen capaciteit 1nF/250V, LCR components; Part Number: CPLS1nF/250V; Component Kind: Standard; Component Type: Standard; Designator: CPLS1nF/250V; Footprint: cap 74 (.5/.22/.6/125/43); Library Reference: CPLS1nF/250V; Pin Count: 2
footprint cap 74 (.5/.22/.6/125/43)
pins: 1, 2

## CPLS1nF/630V
designator C?
polystyreen capaciteit 1nF/630V; Part Number: CPLS1nF/630V; Component Kind: Standard; Component Type: Standard; Designator: CPLS1nF/630V; Footprint: cap 4 (.4/.2/.5/80/36); Library Reference: CPLS1nF/630V; Pin Count: 2
footprint cap 4 (.4/.2/.5/80/36)
pins: 1, 2

## CPLS2.2nF/630V
designator C?
polystyreen capaciteit 2,2nF/630V; Part Number: CPLS2.2nF/630V; Component Kind: Standard; Component Type: Standard; Designator: CPLS2.2nF/630V; Footprint: cap 5 (.56/.2/.7/100/36); Library Reference: CPLS2.2nF/630V; Pin Count: 2
footprint cap 5 (.56/.2/.7/100/36)
pins: 1, 2

## CPLS2.7nF/630V
designator C?
polystyreen capaciteit 2,7nF/630V; Part Number: CPLS2.7nF/630V; Component Kind: Standard; Component Type: Standard; Designator: CPLS2.7nF/630V; Footprint: cap 5 (.56/.2/.7/100/36); Library Reference: CPLS2.7nF/630V; Pin Count: 2
footprint cap 5 (.56/.2/.7/100/36)
pins: 1, 2

## CPLS3.3nF/630V
designator C?
polystyreen capaciteit 3,3nF/630V
footprint cap 6 (.56/.24/.7/100/36)
pins: 1, 2

## CPLS3.9nF/630V
designator C?
polystyreen capaciteit 3,9nF/630V
footprint cap 7 (.56/.3/.7/100/36)
pins: 1, 2

## CPLS5.6nF/630V
designator C?
polystyreen capaciteit 5,6nF/630V; Part Number: CPLS5.6nF/630V; Component Kind: Standard; Component Type: Standard; Designator: CPLS5.6nF/630V; Footprint: cap 7 (.56/.3/.7/100/36); Library Reference: CPLS5.6nF/630V; Pin Count: 2
footprint cap 7 (.56/.3/.7/100/36)
pins: 1, 2

## CPLS56pF/630V
designator C?
polystyreen capaciteit 56pF/630V
footprint cap 2 (.4/.14/.5/80/36)
pins: 1, 2

## CPLS68pF/630V
designator C?
polystyreen capaciteit 68pF/630V; Part Number: CPLS68pF/630V; Component Kind: Standard; Component Type: Standard; Designator: CPLS68pF/630V; Footprint: cap 2 (.4/.14/.5/80/36); Library Reference: CPLS68pF/630V; Pin Count: 2
footprint cap 2 (.4/.14/.5/80/36)
pins: 1, 2

## CPLS82pF/630V
designator C?
polystyreen capaciteit 82pF/630V; Part Number: CPLS82pF/630V; Component Kind: Standard; Component Type: Standard; Designator: CPLS82pF/630V; Footprint: cap 2 (.4/.14/.5/80/36); Library Reference: CPLS82pF/630V; Pin Count: 2
footprint cap 2 (.4/.14/.5/80/36)
pins: 1, 2

## CPLS100pF/630V
designator C?
polystyreen capaciteit 100pF/630V; Part Number: CPLS100pF/630V; Component Kind: Standard; Component Type: Standard; Designator: CPLS100pF/630V; Footprint: cap 2 (.4/.14/.5/80/36); Library Reference: CPLS100pF/630V; Pin Count: 2
footprint cap 2 (.4/.14/.5/80/36)
pins: 1, 2

## CPLS120pF/630V
designator C?
polystyreen capaciteit 120pF/630V; Part Number: CPLS120pF/630V; Component Kind: Standard; Component Type: Standard; Designator: CPLS120pF/630V; Footprint: cap 2 (.4/.14/.5/80/36); Library Reference: CPLS120pF/630V; Pin Count: 2
footprint cap 2 (.4/.14/.5/80/36)
pins: 1, 2

## CPLS150pF/630V
designator C?
polystyreen capaciteit 150pF/630V; Part Number: CPLS150pF/630V; Component Kind: Standard; Component Type: Standard; Designator: CPLS150pF/630V; Footprint: cap 2 (.4/.14/.5/80/36); Library Reference: CPLS150pF/630V; Pin Count: 2
footprint cap 2 (.4/.14/.5/80/36)
pins: 1, 2

## CPLS180pF/630V
designator C?
polystyreen capaciteit 180pF/630V; Part Number: CPLS180pF/630V; Component Kind: Standard; Component Type: Standard; Designator: CPLS180pF/630V; Footprint: cap 2 (.4/.14/.5/80/36); Library Reference: CPLS180pF/630V; Pin Count: 2
footprint cap 2 (.4/.14/.5/80/36)
pins: 1, 2

## CPLS220pF/630V
designator C?
polystyreen capaciteit 220pF/630V; Part Number: CPLS220pF/630V; Component Kind: Standard; Component Type: Standard; Designator: CPLS220pF/630V; Footprint: cap 2 (.4/.14/.5/80/36); Library Reference: CPLS220pF/630V; Pin Count: 2
footprint cap 2 (.4/.14/.5/80/36)
pins: 1, 2

## CPLS270pF/630V
designator C?
polystyreen capaciteit 270pF/630V; Part Number: CPLS270pF/630V; Component Kind: Standard; Component Type: Standard; Designator: CPLS270pF/630V; Footprint: cap 2 (.4/.14/.5/80/36); Library Reference: CPLS270pF/630V; Pin Count: 2
footprint cap 2 (.4/.14/.5/80/36)
pins: 1, 2

## CPLS330pF/630V
designator C?
polystyreen capaciteit 330pF/630V; Part Number: CPLS330pF/630V; Component Kind: Standard; Component Type: Standard; Designator: CPLS330pF/630V; Footprint: cap 2 (.4/.14/.5/80/36); Library Reference: CPLS330pF/630V; Pin Count: 2
footprint cap 2 (.4/.14/.5/80/36)
pins: 1, 2

## CPLS390pF/630V
designator C?
polystyreen capaciteit 390pF/630V; Part Number: CPLS390pF/630V; Component Kind: Standard; Component Type: Standard; Designator: CPLS390pF/630V; Footprint: cap 2 (.4/.14/.5/80/36); Library Reference: CPLS390pF/630V; Pin Count: 2
footprint cap 2 (.4/.14/.5/80/36)
pins: 1, 2

## CPLS470pF/630V
designator C?
polystyreen capaciteit 470pF/630V
footprint cap 3 (.4/.18/.5/80/36)
pins: 1, 2

## CPLS560pF/630V
designator C?
polystyreen capaciteit 560pF/630V; Part Number: CPLS560pF/630V; Component Kind: Standard; Component Type: Standard; Designator: CPLS560pF/630V; Footprint: cap 3 (.4/.18/.5/80/36); Library Reference: CPLS560pF/630V; Pin Count: 2
footprint cap 3 (.4/.18/.5/80/36)
pins: 1, 2

## CPLS680pF/630V
designator C?
polystyreen capaciteit 680pF/630V; Part Number: CPLS680pF/630V; Component Kind: Standard; Component Type: Standard; Designator: CPLS680pF/630V; Footprint: cap 3 (.4/.18/.5/80/36); Library Reference: CPLS680pF/630V; Pin Count: 2
footprint cap 3 (.4/.18/.5/80/36)
pins: 1, 2

## CPLS820pF/250V
designator C?
polystyreen capaciteit 820pF/250V, LCR components
footprint cap 74 (.5/.22/.6/125/43)
pins: 1, 2

## CPLS820pF/630V
designator C?
polystyreen capaciteit 820pF/630V
footprint cap 4 (.4/.2/.5/80/36)
pins: 1, 2

## CPLS910pF/250V
designator C?
polystyreen capaciteit 910pF/250V, LCR components; Part Number: CPLS910pF/250V; Component Kind: Standard; Component Type: Standard; Designator: CPLS910pF/250V; Footprint: cap 74 (.5/.22/.6/125/43); Library Reference: CPLS910pF/250V; Pin Count: 2
footprint cap 74 (.5/.22/.6/125/43)
pins: 1, 2

## CPPL/BC461/4.7nF/160V
designator C?
polypropyleen capaciteit, BC461, 4.7nF/160V
footprint cap 73 (.43/.2/.5/80/36)
pins: 1, 2

## CSIMI3.3pF/500V
designator C?
verzilverde mica capaciteit, 3.3pF/500V, ACL type D15; Part Number: CSIMI3.3pF/500V; Component Kind: Standard; Component Type: Standard; Designator: CSIMI3.3pF/500V; Footprint: cap 85 (.45/.17/.23/80/32); Library Reference: CSIMI3.3pF/500V; Pin Count: 2
footprint cap 85 (.45/.17/.23/80/32)
pins: 1, 2

## CSIMI33pF/500V
designator C?
verzilverde mica capaciteit, 33pF/500V, ACL type D15; Part Number: CSIMI33pF/500V; Component Kind: Standard; Component Type: Standard; Designator: CSIMI33pF/500V; Footprint: cap 85 (.45/.17/.23/80/32); Library Reference: CSIMI33pF/500V; Pin Count: 2
footprint cap 85 (.45/.17/.23/80/32)
pins: 1, 2

## CSIMI47pF/500V
designator C?
verzilverde mica capaciteit, 47pF/500V, ACL type D15
footprint cap 85 (.45/.17/.23/80/32)
pins: 1, 2

## CSIMI220pF/500V
designator C?
verzilverde mica capaciteit, 220pF/500V, ACL type D15; Part Number: CSIMI220pF/500V; Component Kind: Standard; Component Type: Standard; Designator: CSIMI220pF/500V; Footprint: cap 85 (.45/.17/.23/80/32); Library Reference: CSIMI220pF/500V; Pin Count: 2
footprint cap 85 (.45/.17/.23/80/32)
pins: 1, 2

## CSMD402/1.1pF
designator C?, comment 1.1pF
smd capaciteit, verp.0402, 1.1pF
footprint smd C0402
pins: 1, 2

## CSMD402/1.5nF
designator C?
smd capaciteit, verp.0402, 1.5nF; Part Number: CSMD402/1.5nF; Component Kind: Standard; Component Type: Standard; Designator: CSMD402/1.5nF; Footprint: smd C0402; Library Reference: CSMD402/1.5nF; Pin Count: 2
footprint smd C0402
pins: 1, 2

## CSMD402/1nF
designator C?
smd capaciteit, verp.0402, 1nF; Part Number: CSMD402/1nF; Component Kind: Standard; Component Type: Standard; Designator: CSMD402/1nF; Footprint: smd C0402; Library Reference: CSMD402/1nF; Pin Count: 2
footprint smd C0402
pins: 1, 2

## CSMD402/1pF
designator C?
smd capaciteit, verp.0402, 1pF; Part Number: CSMD402/100nF; Component Kind: Standard; Component Type: Standard; Designator: CSMD402/100nF; Footprint: smd C0402; Library Reference: CSMD402/100nF; Pin Count: 2
footprint smd C0402
pins: 1, 2

## CSMD402/2.2nF
designator C?
smd capaciteit, verp.0402, 2.2nF; Part Number: CSMD402/2.2nF; Component Kind: Standard; Component Type: Standard; Designator: CSMD402/2.2nF; Footprint: smd C0402; Library Reference: CSMD402/2.2nF; Pin Count: 2
footprint smd C0402
pins: 1, 2

## CSMD402/2pF
designator C?, comment 2pF
smd capaciteit, verp.0402, 2pF
footprint smd C0402
pins: 1, 2

## CSMD402/3.3nF
designator C?
smd capaciteit, verp.0402, 3.3nF; Part Number: CSMD402/3.3nF; Component Kind: Standard; Component Type: Standard; Designator: CSMD402/3.3nF; Footprint: smd C0402; Library Reference: CSMD402/3.3nF; Pin Count: 2
footprint smd C0402
pins: 1, 2

## CSMD402/3.3pF
designator C?
smd capaciteit, verp.0402, 3.3pF; Part Number: CSMD402/100nF; Component Kind: Standard; Component Type: Standard; Designator: CSMD402/100nF; Footprint: smd C0402; Library Reference: CSMD402/100nF; Pin Count: 2
footprint smd C0402
pins: 1, 2

## CSMD402/4.7nF
designator C?
smd capaciteit, verp.0402, 4.7nF; Part Number: CSMD402/4.7nF; Component Kind: Standard; Component Type: Standard; Designator: CSMD402/4.7nF; Footprint: smd C0402; Library Reference: CSMD402/4.7nF; Pin Count: 2
footprint smd C0402
pins: 1, 2

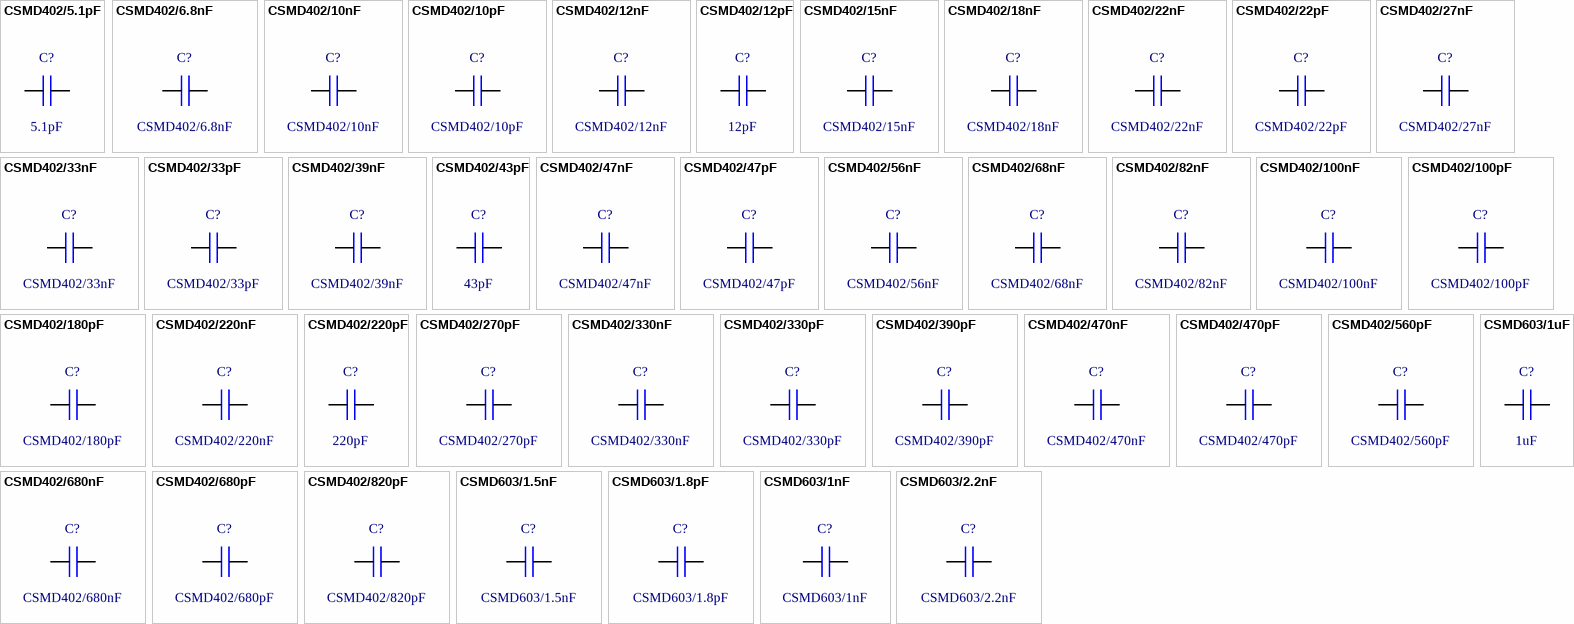
[diagram p227: symbols CSMD402/5.1pF to CSMD603/2.2nF]

## CSMD402/5.1pF
designator C?, comment 5.1pF
smd capaciteit, verp.0402, 5.1pF
footprint smd C0402
pins: 1, 2

## CSMD402/6.8nF
designator C?
smd capaciteit, verp.0402, 6.8nF; Part Number: CSMD402/6.8nF; Component Kind: Standard; Component Type: Standard; Designator: CSMD402/6.8nF; Footprint: smd C0402; Library Reference: CSMD402/6.8nF; Pin Count: 2
footprint smd C0402
pins: 1, 2

## CSMD402/10nF
designator C?
smd capaciteit, verp.0402, 10nF; Part Number: CSMD402/10nF; Component Kind: Standard; Component Type: Standard; Designator: CSMD402/10nF; Footprint: smd C0402; Library Reference: CSMD402/10nF; Pin Count: 2
footprint smd C0402
pins: 1, 2

## CSMD402/10pF
designator C?
smd capaciteit, verp.0402, 10pF; Part Number: CSMD402/10pF; Component Kind: Standard; Component Type: Standard; Designator: CSMD402/10pF; Footprint: smd C0402; Library Reference: CSMD402/10pF; Pin Count: 2
footprint smd C0402
pins: 1, 2

## CSMD402/12nF
designator C?
smd capaciteit, verp.0402, 12nF; Part Number: CSMD402/12nF; Component Kind: Standard; Component Type: Standard; Designator: CSMD402/12nF; Footprint: smd C0402; Library Reference: CSMD402/12nF; Pin Count: 2
footprint smd C0402
pins: 1, 2

## CSMD402/12pF
designator C?, comment 12pF
smd capaciteit, verp.0402, 12pF; Part Number: CSMD402/12nF; Component Kind: Standard; Component Type: Standard; Designator: CSMD402/12nF; Footprint: smd C0402; Library Reference: CSMD402/12nF; Pin Count: 2
footprint smd C0402
pins: 1, 2

## CSMD402/15nF
designator C?
smd capaciteit, verp.0402, 15nF; Part Number: CSMD402/15nF; Component Kind: Standard; Component Type: Standard; Designator: CSMD402/15nF; Footprint: smd C0402; Library Reference: CSMD402/15nF; Pin Count: 2
footprint smd C0402
pins: 1, 2

## CSMD402/18nF
designator C?
smd capaciteit, verp.0402, 18nF; Part Number: CSMD402/18nF; Component Kind: Standard; Component Type: Standard; Designator: CSMD402/18nF; Footprint: smd C0402; Library Reference: CSMD402/18nF; Pin Count: 2
footprint smd C0402
pins: 1, 2

## CSMD402/22nF
designator C?
smd capaciteit, verp.0402, 22nF; Part Number: CSMD402/22nF; Component Kind: Standard; Component Type: Standard; Designator: CSMD402/22nF; Footprint: smd C0402; Library Reference: CSMD402/22nF; Pin Count: 2
footprint smd C0402
pins: 1, 2

## CSMD402/22pF
designator C?
smd capaciteit, verp.0402, 22pF; Part Number: CSMD402/22pF; Component Kind: Standard; Component Type: Standard; Designator: CSMD402/22pF; Footprint: smd C0402; Library Reference: CSMD402/22pF; Pin Count: 2
footprint smd C0402
pins: 1, 2

## CSMD402/27nF
designator C?
smd capaciteit, verp.0402, 27nF; Part Number: CSMD402/27nF; Component Kind: Standard; Component Type: Standard; Designator: CSMD402/27nF; Footprint: smd C0402; Library Reference: CSMD402/27nF; Pin Count: 2
footprint smd C0402
pins: 1, 2

## CSMD402/33nF
designator C?
smd capaciteit, verp.0402, 33nF; Part Number: CSMD402/33nF; Component Kind: Standard; Component Type: Standard; Designator: CSMD402/33nF; Footprint: smd C0402; Library Reference: CSMD402/33nF; Pin Count: 2
footprint smd C0402
pins: 1, 2

## CSMD402/33pF
designator C?
smd capaciteit, verp.0402, 33pF; Part Number: CSMD402/33pF; Component Kind: Standard; Component Type: Standard; Designator: CSMD402/33pF; Footprint: smd C0402; Library Reference: CSMD402/33pF; Pin Count: 2
footprint smd C0402
pins: 1, 2

## CSMD402/39nF
designator C?
smd capaciteit, verp.0402, 39nF; Part Number: CSMD402/39nF; Component Kind: Standard; Component Type: Standard; Designator: CSMD402/39nF; Footprint: smd C0402; Library Reference: CSMD402/39nF; Pin Count: 2
footprint smd C0402
pins: 1, 2

## CSMD402/43pF
designator C?, comment 43pF
smd capaciteit, verp.0402, 43pF
footprint smd C0402
pins: 1, 2

## CSMD402/47nF
designator C?
smd capaciteit, verp.0402, 47nF; Part Number: CSMD402/47nF; Component Kind: Standard; Component Type: Standard; Designator: CSMD402/47nF; Footprint: smd C0402; Library Reference: CSMD402/47nF; Pin Count: 2
footprint smd C0402
pins: 1, 2

## CSMD402/47pF
designator C?
smd capaciteit, verp.0402, 47pF; Part Number: CSMD402/47pF; Component Kind: Standard; Component Type: Standard; Designator: CSMD402/47pF; Footprint: smd C0402; Library Reference: CSMD402/47pF; Pin Count: 2
footprint smd C0402
pins: 1, 2

## CSMD402/56nF
designator C?
smd capaciteit, verp.0402, 56nF; Part Number: CSMD402/56nF; Component Kind: Standard; Component Type: Standard; Designator: CSMD402/56nF; Footprint: smd C0402; Library Reference: CSMD402/56nF; Pin Count: 2
footprint smd C0402
pins: 1, 2

## CSMD402/68nF
designator C?
smd capaciteit, verp.0402, 68nF; Part Number: CSMD402/68nF; Component Kind: Standard; Component Type: Standard; Designator: CSMD402/68nF; Footprint: smd C0402; Library Reference: CSMD402/68nF; Pin Count: 2
footprint smd C0402
pins: 1, 2

## CSMD402/82nF
designator C?
smd capaciteit, verp.0402, 82nF; Part Number: CSMD402/82nF; Component Kind: Standard; Component Type: Standard; Designator: CSMD402/82nF; Footprint: smd C0402; Library Reference: CSMD402/82nF; Pin Count: 2
footprint smd C0402
pins: 1, 2

## CSMD402/100nF
designator C?
smd capaciteit, verp.0402, 100nF; Part Number: CSMD402/100nF; Component Kind: Standard; Component Type: Standard; Designator: CSMD402/100nF; Footprint: smd C0402; Library Reference: CSMD402/100nF; Pin Count: 2
footprint smd C0402
pins: 1, 2

## CSMD402/100pF
designator C?
smd capaciteit, verp.0402, 100pF; Part Number: CSMD402/100pF; Component Kind: Standard; Component Type: Standard; Designator: CSMD402/100pF; Footprint: smd C0402; Library Reference: CSMD402/100pF; Pin Count: 2
footprint smd C0402
pins: 1, 2

## CSMD402/180pF
designator C?
smd capaciteit, verp.0402, 180pF; Part Number: CSMD402/180pF; Component Kind: Standard; Component Type: Standard; Designator: CSMD402/180pF; Footprint: smd C0402; Library Reference: CSMD402/180pF; Pin Count: 2
footprint smd C0402
pins: 1, 2

## CSMD402/220nF
designator C?
smd capaciteit, verp.0402, 220nF; Part Number: CSMD402/220nF; Component Kind: Standard; Component Type: Standard; Designator: CSMD402/220nF; Footprint: smd C0402; Library Reference: CSMD402/220nF; Pin Count: 2
footprint smd C0402
pins: 1, 2

## CSMD402/220pF
designator C?, comment 220pF
smd capaciteit, verp.0402, 220pF
footprint smd C0402
pins: 1, 2

## CSMD402/270pF
designator C?
smd capaciteit, verp.0402, 270pF; Part Number: CSMD402/270pF; Component Kind: Standard; Component Type: Standard; Designator: CSMD402/270pF; Footprint: smd C0402; Library Reference: CSMD402/270pF; Pin Count: 2
footprint smd C0402
pins: 1, 2

## CSMD402/330nF
designator C?
smd capaciteit, verp.0402, 330nF; Part Number: CSMD402/330nF; Component Kind: Standard; Component Type: Standard; Designator: CSMD402/330nF; Footprint: smd C0402; Library Reference: CSMD402/330nF; Pin Count: 2
footprint smd C0402
pins: 1, 2

## CSMD402/330pF
designator C?
smd capaciteit, verp.0402, 330pF; Part Number: CSMD402/330pF; Component Kind: Standard; Component Type: Standard; Designator: CSMD402/330pF; Footprint: smd C0402; Library Reference: CSMD402/330pF; Pin Count: 2
footprint smd C0402
pins: 1, 2

## CSMD402/390pF
designator C?
smd capaciteit, verp.0402, 390pF; Part Number: CSMD402/390pF; Component Kind: Standard; Component Type: Standard; Designator: CSMD402/390pF; Footprint: smd C0402; Library Reference: CSMD402/390pF; Pin Count: 2
footprint smd C0402
pins: 1, 2